# EAGLE library part TPS63020 (library Deegou_IC)
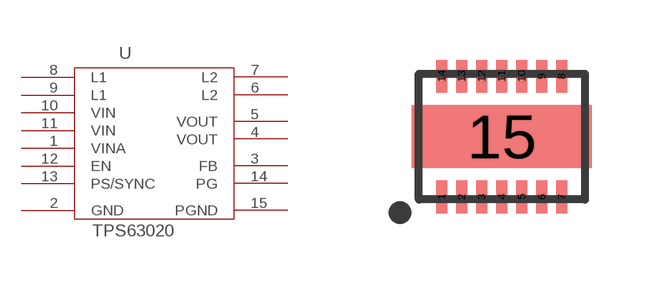
[diagram p93: symbol with the pads of DSJ14_2P85X1P58; footprint DSJ14_2P85X1P58]

Designator prefix U

## TPS63020 (DATASHEETURL: httpwww.ti.comlitgpnTPS63020; FAMILY_NAME: BUCKBOOST REGULATOR; GENERIC_PART_NUMBER: TPS63020; INDUSTRY_STD_PKG_TYPE: VSON; MANUFACTURER: Texas Instruments; MANUFACTURER_PART_NUMBER: tps63020_dsj_14; PACKAGE_DESIGNATOR: DSJ; PIN_COUNT: 14; VENDOR: Texas Instruments)  [DSJ14_2P85X1P58]
1  VINA  in
2  GND  pwr
3  FB  in
4  VOUT  out
5  VOUT  out
6  L2  in
7  L2  in
8  L1  in
9  L1  in
10  VIN  in
11  VIN  in
12  EN  in
13  PS/SYNC  in
14  PG  out
15  PGND  pas

## Footprint DSJ14_2P85X1P58 (pad centres in mm)
smd 0.28 x 0.82: 1 -1.5,-1.51; 2 -1,-1.51; 3 -0.5,-1.51; 4 0,-1.51; 5 0.5,-1.51; 6 1,-1.51; 7 1.5,-1.51; 8 1.5,1.51; 9 1,1.51; 10 0.5,1.51; 11 0,1.51; 12 -0.5,1.51; 13 -1,1.51; 14 -1.5,1.51
smd 4.5 x 1.58: 15 0,0